# Altium schematic symbol library MT36291.Schlib: 1 symbol
Pins are listed as number, name and electrical type; pins without a type are passive.

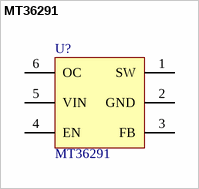
[diagram p0: symbol MT36291]

## MT36291
designator U?
IC_BOOST_SOT-23-20Voutmax_2V2-16Vin
footprint DIODES SOT-23-6 W6 (SOT23, 6-Leads, Body 3.00x2.85mm, Pitch 0.95mm, IPC Medium Density)
pins: 1 SW, 2 GND, 3 FB, 4 EN, 5 VIN, 6 OC